# Altium schematic symbol library WCAP-CSGP.SchLib: 26 symbols
Pins are listed as number, name and electrical type; pins without a type are passive.

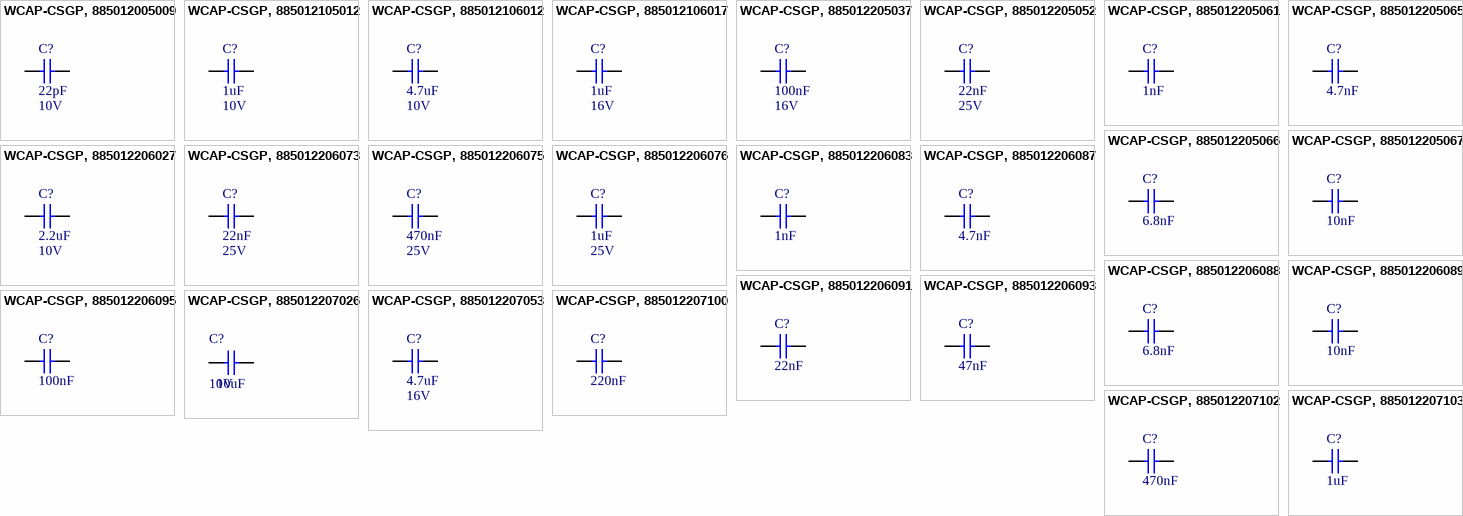
[diagram p0: symbols WCAP-CSGP, 885012005009 to WCAP-CSGP, 885012207103]

## WCAP-CSGP, 885012005009
designator C?, comment 22pF  RatedVoltage: 10V
CAP CER 22PF 10V NP0 0402; Manufacturer: Wurth Elektronik; Manufacturer Part Number: 885012005009; ComponentLink1Description: Datasheet; ComponentLink1URL: http://katalog.we-online.com/pbs/datasheet/885012005009.pdf; Value: 22pF; Size: 0402; CeramicType: NP0; Supplier 2: JLCPCB; Supplier Part Number 2: C1555; Supplier Footprint 2: 0402; Supplier 1: Farnell; Supplier Part Number 1: 2533782
footprint WCAP-CSGP_0402, 1x0.5x0.5
pins: 1, 2

## WCAP-CSGP, 885012105012
designator C?, comment 1uF  RatedVoltage: 10V
CAP CER 1UF 10V X5R 0402; Manufacturer: Wurth Elektronik; Manufacturer Part Number: 885012105012; ComponentLink1Description: Datasheet; ComponentLink1URL: http://katalog.we-online.com/pbs/datasheet/885012105012.pdf; Value: 1uF; Size: 0402; CeramicType: X5R; Supplier 2: JLCPCB; Supplier Part Number 2: C52923; Supplier Footprint 2: 0402; Supplier 1: Farnell; Supplier Part Number 1: 2495145
footprint WCAP-CSGP_0402, 1x0.5x0.5
pins: 1, 2

## WCAP-CSGP, 885012106012
designator C?, comment 4.7uF  RatedVoltage: 10V
CAP CER 4.7UF 10V X5R 0603; Manufacturer: Wurth Elektronik; Manufacturer Part Number: 885012106012; ComponentLink1Description: Datasheet; ComponentLink1URL: http://katalog.we-online.com/pbs/datasheet/885012106012.pdf; Value: 4.7uF; Size: 0603; CeramicType: X5R; Supplier 2: JLCPCB; Supplier Part Number 2: C19666; Supplier Footprint 2: 0603; Supplier 1: Farnell; Supplier Part Number 1: 2495148
footprint WCAP-CSGP_0603, 1.6x0.8x0.8
pins: 1, 2

## WCAP-CSGP, 885012106017
designator C?, comment 1uF  RatedVoltage: 16V
CAP CER 1UF 16V X5R 0603; Manufacturer: Wurth Elektronik; Manufacturer Part Number: 885012106017; ComponentLink1Description: Datasheet; ComponentLink1URL: http://katalog.we-online.com/pbs/datasheet/885012106017.pdf; Value: 1uF; Size: 0603; CeramicType: X5R; Supplier 2: JLCPCB; Supplier Part Number 2: C15849; Supplier Footprint 2: 0603; Supplier 1: Farnell; Supplier Part Number 1: 2533943
footprint WCAP-CSGP_0603, 1.6x0.8x0.8
pins: 1, 2

## WCAP-CSGP, 885012205037
designator C?, comment 100nF  RatedVoltage: 16V
CAP CER 100nF 16V X7R 0402; Manufacturer: Wurth Elektronik; Manufacturer Part Number: 885012205037; ComponentLink1Description: Datasheet; ComponentLink1URL: http://katalog.we-online.com/pbs/datasheet/885012205037.pdf; Value: 100nF; Size: 0402; CeramicType: X7R; Supplier 2: JLCPCB; Supplier Part Number 2: C1525; Supplier Footprint 2: 0402; Supplier 1: Farnell; Supplier Part Number 1: 2495165
footprint WCAP-CSGP_0402, 1x0.5x0.5
pins: 1, 2

## WCAP-CSGP, 885012205052
designator C?, comment 22nF  RatedVoltage: 25V
CAP CER 22nF 25V X7R 0402; Manufacturer: Wurth Elektronik; Manufacturer Part Number: 885012205052; ComponentLink1Description: Datasheet; ComponentLink1URL: http://katalog.we-online.com/pbs/datasheet/885012205052.pdf; Value: 22nF; Size: 0402; CeramicType: X7R; Supplier 2: JLCPCB; Supplier Part Number 2: C1532; Supplier Footprint 2: 0402; Supplier 1: Farnell; Supplier Part Number 1: 2533997
footprint WCAP-CSGP_0402, 1x0.5x0.5
pins: 1, 2

## WCAP-CSGP, 885012205061
designator C?, comment 1nF
CAP CER 1nF 50V X7R 0402; Manufacturer: Wurth Elektronik; Manufacturer Part Number: 885012205061; ComponentLink1Description: Datasheet; ComponentLink1URL: http://katalog.we-online.com/pbs/datasheet/885012205061.pdf; Value: 1nF; Size: 0402; CeramicType: X7R; RatedVoltage: 50V; Supplier 2: JLCPCB; Supplier Part Number 2: C1523; Supplier Footprint 2: 0402; Supplier 1: Farnell; Supplier Part Number 1: 2495166
footprint WCAP-CSGP_0402, 1x0.5x0.5
pins: 1, 2

## WCAP-CSGP, 885012205065
designator C?, comment 4.7nF
CAP CER 4.7nF 50V X7R 0402; Manufacturer: Wurth Elektronik; Manufacturer Part Number: 885012205065; ComponentLink1Description: Datasheet; ComponentLink1URL: http://katalog.we-online.com/pbs/datasheet/885012205065.pdf; Value: 4.7nF; Size: 0402; CeramicType: X7R; RatedVoltage: 50V; Supplier 2: JLCPCB; Supplier Part Number 2: C1538; Supplier Footprint 2: 0402; Supplier 1: Farnell; Supplier Part Number 1: 2534010
footprint WCAP-CSGP_0402, 1x0.5x0.5
pins: 1, 2

## WCAP-CSGP, 885012205066
designator C?, comment 6.8nF
CAP CER 6.8nF 50V X7R 0402; Manufacturer: Wurth Elektronik; Manufacturer Part Number: 885012205066; ComponentLink1Description: Datasheet; ComponentLink1URL: http://katalog.we-online.com/pbs/datasheet/885012205066.pdf; Value: 6.8nF; Size: 0402; CeramicType: X7R; RatedVoltage: 50V; Supplier 2: JLCPCB; Supplier Part Number 2: C1542; Supplier Footprint 2: 0402; Supplier 1: Farnell; Supplier Part Number 1: 2534012
footprint WCAP-CSGP_0402, 1x0.5x0.5
pins: 1, 2

## WCAP-CSGP, 885012205067
designator C?, comment 10nF
CAP CER 10nF 50V X7R 0402; Manufacturer: Wurth Elektronik; Manufacturer Part Number: 885012205067; ComponentLink1Description: Datasheet; ComponentLink1URL: http://katalog.we-online.com/pbs/datasheet/885012205067.pdf; Value: 10nF; Size: 0402; CeramicType: X7R; Supplier 2: JLCPCB; Supplier Part Number 2: C15195; RatedVoltage: 50V; Supplier Footprint 2: 0402; Supplier 1: Farnell; Supplier Part Number 1: 2495167
footprint WCAP-CSGP_0402, 1x0.5x0.5
pins: 1, 2

## WCAP-CSGP, 885012206027
designator C?, comment 2.2uF  RatedVoltage: 10V
CAP CER 2.2uF 10V X7R 0603; Manufacturer: Wurth Elektronik; Manufacturer Part Number: 885012206027; ComponentLink1Description: Datasheet; ComponentLink1URL: http://katalog.we-online.com/pbs/datasheet/885012206027.pdf; Value: 2.2uF; Size: 0603; CeramicType: X7R; Supplier 2: JLCPCB; Supplier Part Number 2: C23630; Supplier Footprint 2: 0603; Supplier 1: Farnell; Supplier Part Number 1: 2495169
footprint WCAP-CSGP_0603, 1.6x0.8x0.8
pins: 1, 2

## WCAP-CSGP, 885012206073
designator C?, comment 22nF  RatedVoltage: 25V
CAP CER 22nF 25V X7R 0603; Manufacturer: Wurth Elektronik; Manufacturer Part Number: 885012206073; ComponentLink1Description: Datasheet; ComponentLink1URL: http://katalog.we-online.com/pbs/datasheet/885012206073.pdf; Value: 22nF; Size: 0603; CeramicType: X7R; Supplier 2: JLCPCB; Supplier Part Number 2: C21122; Supplier Footprint 2: 0603; Supplier 1: Farnell; Supplier Part Number 1: 2495174
footprint WCAP-CSGP_0603, 1.6x0.8x0.8
pins: 1, 2

## WCAP-CSGP, 885012206075
designator C?, comment 470nF  RatedVoltage: 25V
CAP CER 470nF 25V X7R 0603; Manufacturer: Wurth Elektronik; Manufacturer Part Number: 885012206075; ComponentLink1Description: Datasheet; ComponentLink1URL: http://katalog.we-online.com/pbs/datasheet/885012206075.pdf; Value: 470nF; Size: 0603; CeramicType: X7R; Supplier 2: JLCPCB; Supplier Part Number 2: C1623; Supplier Footprint 2: 0603; Supplier 1: Farnell; Supplier Part Number 1: 2495175
footprint WCAP-CSGP_0603, 1.6x0.8x0.8
pins: 1, 2

## WCAP-CSGP, 885012206076
designator C?, comment 1uF  RatedVoltage: 25V
CAP CER 1uF 25V X7R 0603; Manufacturer: Wurth Elektronik; Manufacturer Part Number: 885012206076; ComponentLink1Description: Datasheet; ComponentLink1URL: http://katalog.we-online.com/pbs/datasheet/885012206076.pdf; Value: 1uF; Size: 0603; CeramicType: X7R; Supplier 2: JLCPCB; Supplier Part Number 2: C15849; Supplier Footprint 2: 0603; Supplier 1: Farnell; Supplier Part Number 1: 2495176
footprint WCAP-CSGP_0603, 1.6x0.8x0.8
pins: 1, 2

## WCAP-CSGP, 885012206083
designator C?, comment 1nF
CAP CER 1nF 50V X7R 0603; Manufacturer: Wurth Elektronik; Manufacturer Part Number: 885012206083; ComponentLink1Description: Datasheet; ComponentLink1URL: http://katalog.we-online.com/pbs/datasheet/885012206083.pdf; Value: 1nF; Size: 0603; CeramicType: X7R; RatedVoltage: 50V; Supplier 2: JLCPCB; Supplier Part Number 2: C1588; Supplier Footprint 2: 0603; Supplier 1: Farnell; Supplier Part Number 1: 2495178
footprint WCAP-CSGP_0603, 1.6x0.8x0.8
pins: 1, 2

## WCAP-CSGP, 885012206087
designator C?, comment 4.7nF
CAP CER 4.7nF 50V X7R 0603; Manufacturer: Wurth Elektronik; Manufacturer Part Number: 885012206087; ComponentLink1Description: Datasheet; ComponentLink1URL: http://katalog.we-online.com/pbs/datasheet/885012206087.pdf; Value: 4.7nF; Size: 0603; CeramicType: X7R; RatedVoltage: 50V; Supplier 2: JLCPCB; Supplier Part Number 2: C53987; Supplier Footprint 2: 0603; Supplier 1: Farnell; Supplier Part Number 1: 2495180
footprint WCAP-CSGP_0603, 1.6x0.8x0.8
pins: 1, 2

## WCAP-CSGP, 885012206088
designator C?, comment 6.8nF
CAP CER 6.8nF 50V X7R 0603; Manufacturer: Wurth Elektronik; Manufacturer Part Number: 885012206088; ComponentLink1Description: Datasheet; ComponentLink1URL: http://katalog.we-online.com/pbs/datasheet/885012206088.pdf; Value: 6.8nF; Size: 0603; CeramicType: X7R; RatedVoltage: 50V; Supplier 2: JLCPCB; Supplier Part Number 2: C1631; Supplier Footprint 2: 0603; Supplier 1: Farnell; Supplier Part Number 1: 2495181
footprint WCAP-CSGP_0603, 1.6x0.8x0.8
pins: 1, 2

## WCAP-CSGP, 885012206089
designator C?, comment 10nF
CAP CER 10nF 50V X7R 0603; Manufacturer: Wurth Elektronik; Manufacturer Part Number: 885012206089; ComponentLink1Description: Datasheet; ComponentLink1URL: http://katalog.we-online.com/pbs/datasheet/885012206089.pdf; Value: 10nF; Size: 0603; CeramicType: X7R; RatedVoltage: 50V; Supplier 2: JLCPCB; Supplier Part Number 2: C57112; Supplier Footprint 2: 0603; Supplier 1: Farnell; Supplier Part Number 1: 2495182
footprint WCAP-CSGP_0603, 1.6x0.8x0.8
pins: 1, 2

## WCAP-CSGP, 885012206091
designator C?, comment 22nF
CAP CER 22nF 50V X7R 0603; Manufacturer: Wurth Elektronik; Manufacturer Part Number: 885012206091; ComponentLink1Description: Datasheet; ComponentLink1URL: http://katalog.we-online.com/pbs/datasheet/885012206091.pdf; Value: 22nF; Size: 0603; CeramicType: X7R; RatedVoltage: 50V; Supplier 2: JLCPCB; Supplier Part Number 2: C21122; Supplier Footprint 2: 0603; Supplier 1: Farnell; Supplier Part Number 1: 2495183
footprint WCAP-CSGP_0603, 1.6x0.8x0.8
pins: 1, 2

## WCAP-CSGP, 885012206093
designator C?, comment 47nF
CAP CER 47nF 50V X7R 0603; Manufacturer: Wurth Elektronik; Manufacturer Part Number: 885012206093; ComponentLink1Description: Datasheet; ComponentLink1URL: http://katalog.we-online.com/pbs/datasheet/885012206093.pdf; Value: 47nF; Size: 0603; CeramicType: X7R; RatedVoltage: 50V; Supplier 2: JLCPCB; Supplier Part Number 2: C1622; Supplier Footprint 2: 0603; Supplier 1: Farnell; Supplier Part Number 1: 2495185
footprint WCAP-CSGP_0603, 1.6x0.8x0.8
pins: 1, 2

## WCAP-CSGP, 885012206095
designator C?, comment 100nF
CAP CER 100nF 50V X7R 0603; Manufacturer: Wurth Elektronik; Manufacturer Part Number: 885012206095; ComponentLink1Description: Datasheet; ComponentLink1URL: http://katalog.we-online.com/pbs/datasheet/885012206095.pdf; Value: 100nF; Size: 0603; CeramicType: X7R; Supplier 2: JLCPCB; Supplier Part Number 2: C14663; RatedVoltage: 50V; Supplier Footprint 2: 0603; Supplier 1: Farnell; Supplier Part Number 1: 2495187
footprint WCAP-CSGP_0603, 1.6x0.8x0.8
pins: 1, 2

## WCAP-CSGP, 885012207026
designator C?, comment 10uF  RatedVoltage: 10V
CAP CER 10uF 10V X7R 0805; Manufacturer: Wurth Elektronik; Manufacturer Part Number: 885012207026; ComponentLink1Description: Datasheet; ComponentLink1URL: http://katalog.we-online.com/pbs/datasheet/885012207026.pdf; Value: 10uF; Size: 0805; CeramicType: X7R; Supplier 1: Farnell; Supplier Part Number 1: 2495189; Supplier Part Number 2: C15850; Supplier 2: JLCPCB; Supplier Footprint 2: 0805
footprint WCAP-CSGP_0805, 2x1.25x1.25
pins: 1, 2

## WCAP-CSGP, 885012207053
designator C?, comment 4.7uF  RatedVoltage: 16V
CAP CER 4.7uF 16V X7R 0805; Manufacturer: Wurth Elektronik; Manufacturer Part Number: 885012207053; ComponentLink1Description: Datasheet; ComponentLink1URL: http://katalog.we-online.com/pbs/datasheet/885012207053.pdf; Value: 4.7uF; Size: 0805; CeramicType: X7R; Supplier 2: JLCPCB; Supplier Part Number 2: C1779; Supplier Footprint 2: 0805; Supplier 1: Farnell; Supplier Part Number 1: 2495191
footprint WCAP-CSGP_0805, 2x1.25x1.25
pins: 1, 2

## WCAP-CSGP, 885012207100
designator C?, comment 220nF
CAP CER 220nF 50V X7R 0805; Manufacturer: Wurth Elektronik; Manufacturer Part Number: 885012207100; ComponentLink1Description: Datasheet; ComponentLink1URL: http://katalog.we-online.com/pbs/datasheet/885012207100.pdf; Value: 220nF; Size: 0805; CeramicType: X7R; RatedVoltage: 50V; Supplier 2: JLCPCB; Supplier Part Number 2: C5378; Supplier Footprint 2: 0805; Supplier 1: Farnell; Supplier Part Number 1: 2495198
footprint WCAP-CSGP_0805, 2x1.25x1.25
pins: 1, 2

## WCAP-CSGP, 885012207102
designator C?, comment 470nF
CAP CER 470nF 50V X7R 0805; Manufacturer: Wurth Elektronik; Manufacturer Part Number: 885012207102; ComponentLink1Description: Datasheet; ComponentLink1URL: http://katalog.we-online.com/pbs/datasheet/885012207102.pdf; Value: 470nF; Size: 0805; CeramicType: X7R; RatedVoltage: 50V; Supplier 2: JLCPCB; Supplier Part Number 2: C13967; Supplier Footprint 2: 0805; Supplier 1: Farnell; Supplier Part Number 1: 2495199
footprint WCAP-CSGP_0805, 2x1.25x1.25
pins: 1, 2

## WCAP-CSGP, 885012207103
designator C?, comment 1uF
CAP CER 1uF 50V X7R 0805; Manufacturer: Wurth Elektronik; Manufacturer Part Number: 885012207103; ComponentLink1Description: Datasheet; ComponentLink1URL: http://katalog.we-online.com/pbs/datasheet/885012207103.pdf; Value: 1uF; Size: 0805; CeramicType: X7R; Supplier 2: JLCPCB; Supplier Part Number 2: C28323; RatedVoltage: 50V; Supplier Footprint 2: 0805; Supplier 1: Farnell; Supplier Part Number 1: 2495200
footprint WCAP-CSGP_0805, 2x1.25x1.25
pins: 1, 2